# Altium schematic symbol library LM317.SchLib: 1 symbol
Pins are listed as number, name and electrical type; pins without a type are passive.

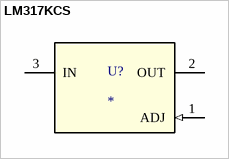
[diagram p0: symbol LM317KCS]

## LM317KCS
designator U?
1.5A Adjustable Positive Voltage Regulator; PartNumber: LM317KCS; Manufacturer: Texas Instruments; SymbolCreater: a0411947; CompType: IC; PIN_COUNT: 3; Application_BuildNumber: *; PackageReference: KCS0003A; MountType: SMT; RoHS: Y; RefDes: RefDes; Type: DEV; Value: Value
footprint KCS0003A
pins: 1 ADJ (in), 2 OUT (power), 3 IN (power)